# Altium footprint library SFV8R-1STBE1HLF FPC.PcbLib: 1 footprints
Each footprint in its own frame and in the unit in brackets; x right, y up, seen from the top. Pads: shape width x height; smd on the part's side, far side on the other; paste and mask are expansions set on the pad; w line width, h text height; cw(c..) or ccw(c..) is an arc to the next point about the centre after c.
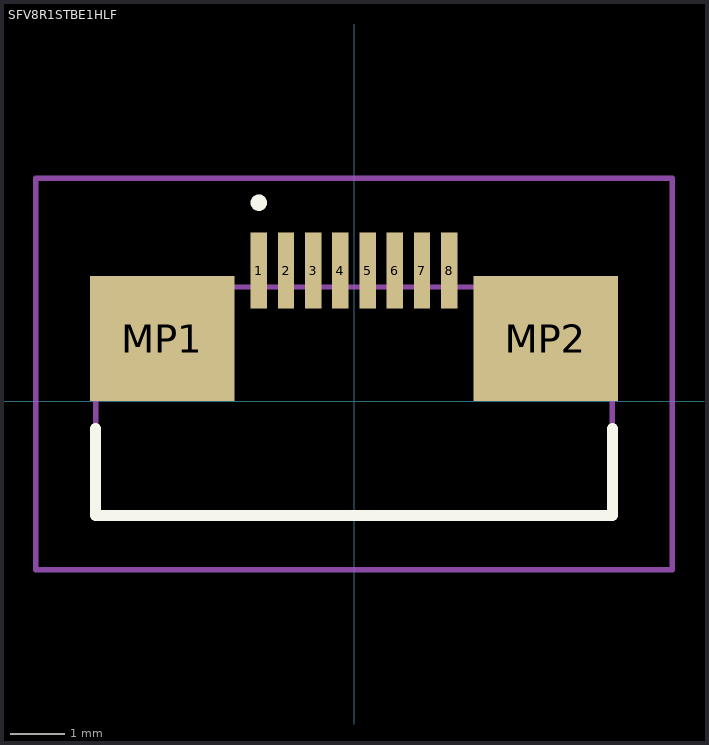
[diagram p0: the footprint, top view; thin cyan lines are the x and y axes]

## SFV8R1STBE1HLF [mm]
pads (10):
  rect 0.3x1.4 smd: 1(-1.75,2.4) 2(-1.25,2.4) 3(-0.75,2.4) 4(-0.25,2.4) 5(0.25,2.4) 6(0.75,2.4) 7(1.25,2.4) 8(1.75,2.4)
  rect 2.65x2.3 smd: MP1(-3.525,1.15) MP2(3.525,1.15)
Top Overlay:
  lines w0.2: -4.75,-2.1 4.75,-2.1 ; -4.75,-2.1 4.75,-2.1 ; -4.75,-2.1 -4.75,-0.5 -4.75,-2.1 ; -1.75,3.6 ccw(c-1.75,3.65) -1.75,3.7 ; -1.75,3.6 cw(c-1.75,3.65) -1.75,3.7 ; -1.75,3.6 ccw(c-1.75,3.65) -1.75,3.7 ; 4.75,-2.1 4.75,-0.5 4.75,-2.1
Mechanical 13:
  lines w0.1: -4.75,-2.1 -4.75,2.1 4.75,2.1 4.75,-2.1 -4.75,-2.1
Mechanical 15:
  lines w0.1: -5.85,-3.1 -5.85,4.1 5.85,4.1 5.85,-3.1 -5.85,-3.1
3D body "SFV8R-1STBE1HLF.stp": height 2.1, standoff 0, extent -4.75,-2.1 4.75,3.07